# Altium footprint library Con_20x20x0.5x0.5.PcbLib: 1 footprints
Each footprint in its own frame and in the unit in brackets; x right, y up, seen from the top. Pads: shape width x height; smd on the part's side, far side on the other; paste and mask are expansions set on the pad; w line width, h text height; cw(c..) or ccw(c..) is an arc to the next point about the centre after c.
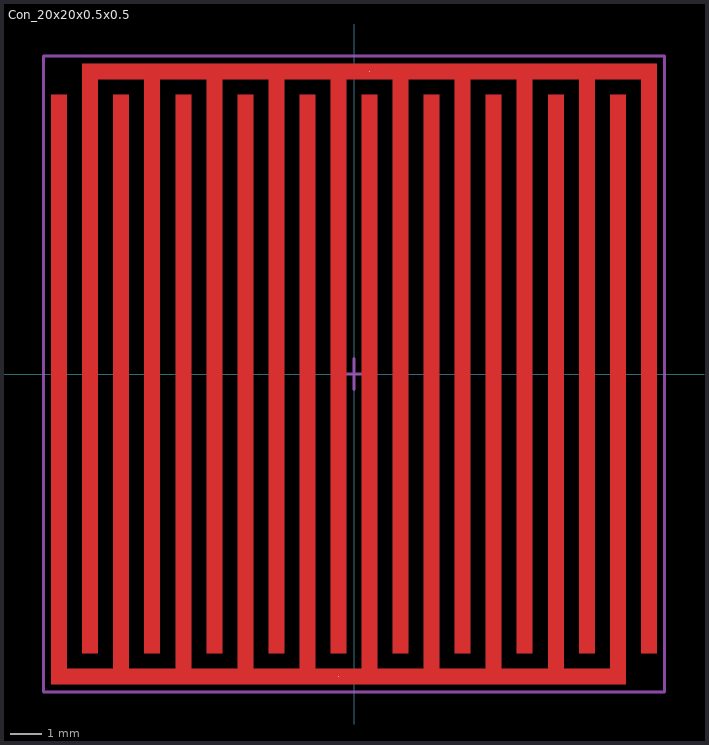
[diagram p0: the footprint, top view; thin cyan lines are the x and y axes]

## Con_20x20x0.5x0.5 [mm]
pads (2):
  round 0.025 smd paste-2539.97: 1(0.5,9.75) 2(-0.5,-9.75)
Top Layer:
  region: -8.75,-9 -8.25,-9 -8.25,9.5 -6.75,9.5 -6.75,-9 -6.25,-9 -6.25,9.5 -4.75,9.5 -4.75,-9 -4.25,-9 -4.25,9.5 -2.75,9.5 -2.75,-9 -2.25,-9 -2.25,9.5 -0.75,9.5 -0.75,-9 -0.25,-9 -0.25,9.5 1.25,9.5 1.25,-9 1.75,-9 1.75,9.5 3.25,9.5 3.25,-9 3.75,-9 3.75,9.5 5.25,9.5 5.25,-9 5.75,-9 5.75,9.5 7.25,9.5 7.25,-9 7.75,-9 7.75,9.5 9.25,9.5 9.25,-9 9.75,-9 9.75,10 -8.75,10
  region: -9.25,-9.5 -9.25,9 -9.75,9 -9.75,-10 8.75,-10 8.75,9 8.25,9 8.25,-9.5 6.75,-9.5 6.75,9 6.25,9 6.25,-9.5 4.75,-9.5 4.75,9 4.25,9 4.25,-9.5 2.75,-9.5 2.75,9 2.25,9 2.25,-9.5 0.75,-9.5 0.75,9 0.25,9 0.25,-9.5 -1.25,-9.5 -1.25,9 -1.75,9 -1.75,-9.5 -3.25,-9.5 -3.25,9 -3.75,9 -3.75,-9.5 -5.25,-9.5 -5.25,9 -5.75,9 -5.75,-9.5 -7.25,-9.5 -7.25,9 -7.75,9 -7.75,-9.5
Top Assembly:
  text ".Designator" at -4.8,-0.467 h1
Top Courtyard:
  lines w0.1: -0.5,0 0.5,0 ; 0,-0.5 0,0.5 ; -10,-10.25 10,-10.25 10,10.25 -10,10.25 -10,-10.25